# EAGLE library part P8X32A-D40 (library Parallax Propeller)
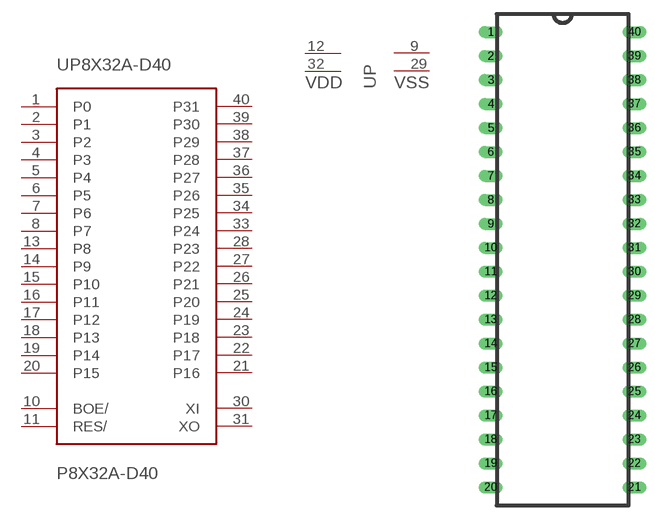
[diagram p2: symbol with the pads of P8X32A-D40; footprint P8X32A-D40]

Designator prefix -; gates P=2VDD2VSS P8X32A-D40=P8X32A

## P8X32A-D40  [P8X32A-D40]
1  P8X32A-D40:P0
2  P8X32A-D40:P1
3  P8X32A-D40:P2
4  P8X32A-D40:P3
5  P8X32A-D40:P4
6  P8X32A-D40:P5
7  P8X32A-D40:P6
8  P8X32A-D40:P7
9  P:VSS  pwr
10  P8X32A-D40:BOE/  in
11  P8X32A-D40:RES/
12  P:VDD  pwr
13  P8X32A-D40:P8
14  P8X32A-D40:P9
15  P8X32A-D40:P10
16  P8X32A-D40:P11
17  P8X32A-D40:P12
18  P8X32A-D40:P13
19  P8X32A-D40:P14
20  P8X32A-D40:P15
21  P8X32A-D40:P16
22  P8X32A-D40:P17
23  P8X32A-D40:P18
24  P8X32A-D40:P19
25  P8X32A-D40:P20
26  P8X32A-D40:P21
27  P8X32A-D40:P22
28  P8X32A-D40:P23
29  P:VSS  pwr
30  P8X32A-D40:XI  in
31  P8X32A-D40:XO  out
32  P:VDD  pwr
33  P8X32A-D40:P24
34  P8X32A-D40:P25
35  P8X32A-D40:P26
36  P8X32A-D40:P27
37  P8X32A-D40:P28
38  P8X32A-D40:P29
39  P8X32A-D40:P30
40  P8X32A-D40:P31

## Footprint P8X32A-D40 (pad centres in mm)
drill 0.7 pad 1.27 long: 1 -7.62,23.495; 2 -7.62,20.955; 3 -7.62,18.415; 4 -7.62,15.875; 5 -7.62,13.335; 6 -7.62,10.795; 7 -7.62,8.255; 8 -7.62,5.715; 9 -7.62,3.175; 10 -7.62,0.635; 11 -7.62,-1.905; 12 -7.62,-4.445; 13 -7.62,-6.985; 14 -7.62,-9.525; 15 -7.62,-12.065; 16 -7.62,-14.605; 17 -7.62,-17.145; 18 -7.62,-19.685; 19 -7.62,-22.225; 20 -7.62,-24.765; 21 7.62,-24.765; 22 7.62,-22.225; 23 7.62,-19.685; 24 7.62,-17.145; 25 7.62,-14.605; 26 7.62,-12.065; 27 7.62,-9.525; 28 7.62,-6.985; 29 7.62,-4.445; 30 7.62,-1.905; 31 7.62,0.635; 32 7.62,3.175; 33 7.62,5.715; 34 7.62,8.255; 35 7.62,10.795; 36 7.62,13.335; 37 7.62,15.875; 38 7.62,18.415; 39 7.62,20.955; 40 7.62,23.495